# EAGLE library part 66101611622 (library Wurth_Connectors_WR-WTB)
WR-WTB 2.54 mm Male Vertical Shrouded Header KIND PROPERTIES: Pitch:2.54 mm Gender:Male Type:Vertical MATERIAL PROPERTIES: Insulator Material :PA46 Insulator Flammability Rating:UL94 V-0 Color:Black Contact Material:Phosphor Bronze Contact Plating:Tin GENERAL INFORMATION Operating Temperature:-40 up to +105 °C Compliance: RoHS IR:3A Working Voltage:50 V (AC) Withstanding Voltage:500 V (AC) Contact Resistance:20 mΩ PACKAGING PROPERTIES Packaging:Box <https://www.we-online.com/catalog/media/o58903v209%20Family_WR-WTB_6610xx11622_2%2054.jpg> Details see: www.we-online.com/catalog/WTB_2_54_MALE_VERTICAL_SHROUDED_HEADER_GLOW_WIRE_PLASTIC_6610XXX1622 <www.we-online.com/catalog/WTB_2_54_MALE_VERTICAL_SHROUDED_HEADER_GLOW_WIRE_PLASTIC_6610XXX1622/?utm_source=eagle_model&utm_medium=description_link&utm_campaign=eisos_eagle> Created by Ella Wu 2022-10-31 2022 (C) Würth Elektronik
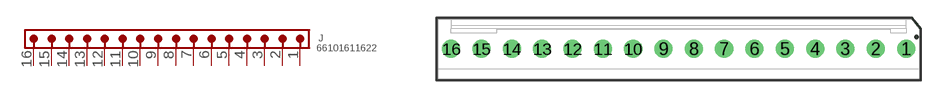
[diagram p145: symbol with the pads of 66101611622; footprint 66101611622]

Designator prefix J

## 66101611622 (CONTACT-RESISTANCE: 20mOhm; DATASHEET-URL: https://www.we-online.com/redexpert/spec/66101611622?ae; GENDER: Male; IR: 3A; L: 40.34mm; MOUNT: THT; PACKAGING: Box; PART-NUMBER: 66101611622; PCB-CABLE-PANEL: PCB; PINS: 16; PITCH: 2.54mm; TYPE: Vertical; VALUE: 66101611622; WORKING-VOLTAGE: 50V(AC))  [66101611622]
1  1  pas
2  2  pas
3  3  pas
4  4  pas
5  5  pas
6  6  pas
7  7  pas
8  8  pas
9  9  pas
10  10  pas
11  11  pas
12  12  pas
13  13  pas
14  14  pas
15  15  pas
16  16  pas

## Footprint 66101611622 (pad centres in mm)
WR-WTB 2.54 mm Male Vertical Shrouded Header THT, 16Pins
drill 1: 1 19.05,0; 2 16.51,0; 3 13.97,0; 4 11.43,0; 5 8.89,0; 6 6.35,0; 7 3.81,0; 8 1.27,0; 9 -1.27,0; 10 -3.81,0; 11 -6.35,0; 12 -8.89,0; 13 -11.43,0; 14 -13.97,0; 15 -16.51,0; 16 -19.05,0